# Altium schematic symbol library S_TACTSWITCH_SPST_4PIN.Schlib: 1 symbol
Pins are listed as number, name and electrical type; pins without a type are passive.

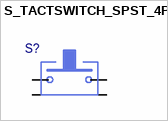
[diagram p0: symbol S_TACTSWITCH_SPST_4PIN]

## S_TACTSWITCH_SPST_4PIN
designator S?, comment S_TACTSWITCH  (value not drawn)
pins: 1, 2, 3, 4